# Altium footprint library 8TQ100.PcbLib: 2 footprints
Each footprint in its own frame and in the unit in brackets; x right, y up, seen from the top. Pads: shape width x height; smd on the part's side, far side on the other; paste and mask are expansions set on the pad; w line width, h text height; cw(c..) or ccw(c..) is an arc to the next point about the centre after c.
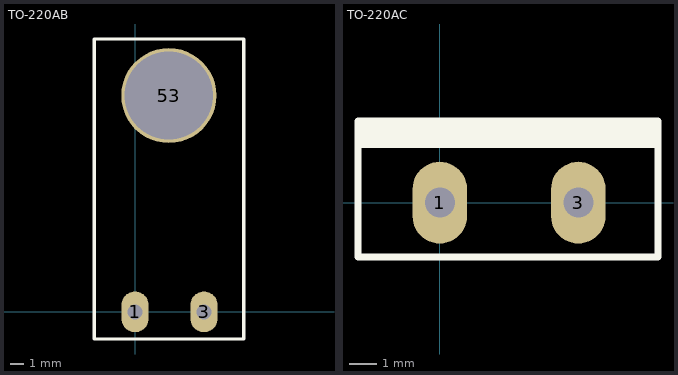
[diagram p0: the footprints below, top view; thin cyan lines are the x and y axes]

## TO-220AB [mm]
pads (3):
  oval 2x3 hole 1.1: 1(0,0) 3(5.08,0)
  round 7 hole 6.5: 53(2.489,15.926)
Top Overlay:
  lines w0.254: -3,-2 -3,20.091 8,20.091 8,-2 -3,-2
3D body "to-220-ab-2.STEP": height 0.71, standoff -8, extent -2.413,-0.544 7.487,19.136

## TO-220AC [mm]
pads (2):
  oval 2x3 hole 1.1: 1(0,0) 3(5.08,0)
Top Overlay:
  rectangle: -3,2 8,3
  lines w0.254: -3,-2 8,-2 8,3 -3,3 -3,-2
3D body "8TQ100-TO220-2_V-S.STEP": height 19.5, standoff -2.7, extent -2.475,-1.65 7.525,2.85